# Altium integrated library Stm8_PCB_Project.IntLib: 14 symbols
Pins are listed as number, name and electrical type; pins without a type are passive.

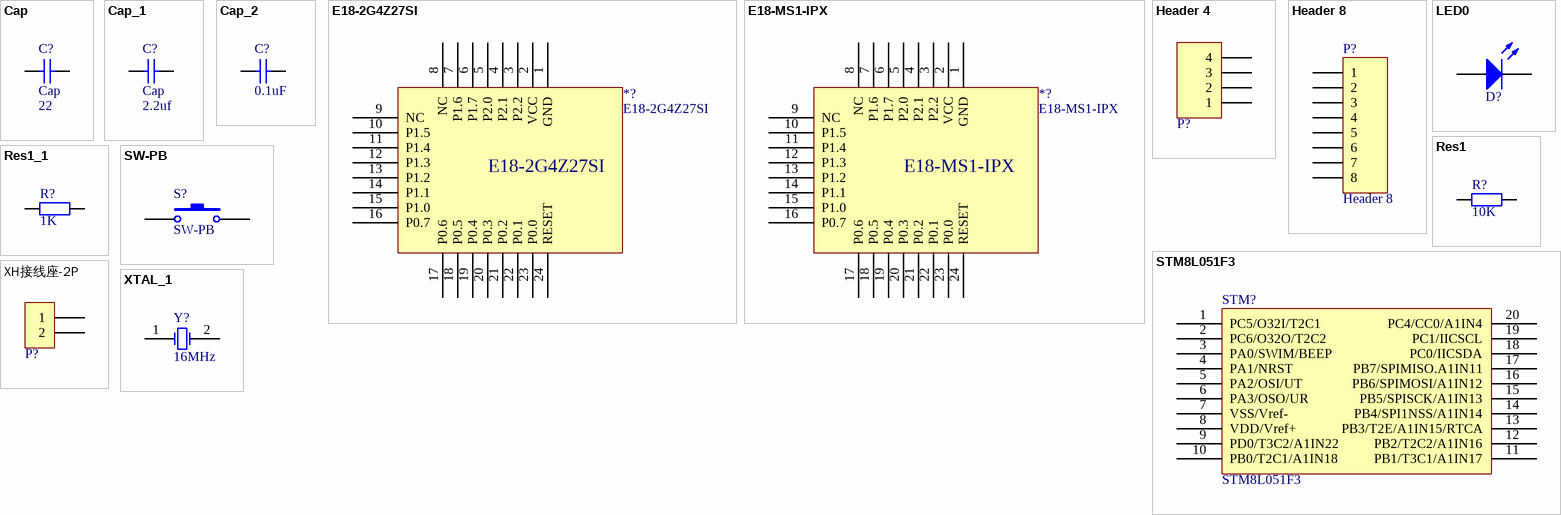
[diagram p0: symbols Cap to XTAL_1]

## Cap
designator C?  value 22
Capacitor; Published: 8-Jun-2000; LatestRevisionDate: 17-Jul-2002; LatestRevisionNote: Re-released for DXP Platform.; PackageReference: RAD-0.3; Publisher: Altium Limited; PackageDescription: Radial Cap, Thru-Hole; 2 Leads; 0.3 in Pin Spacing
simulation model CAP (Capacitor)
signal-integrity model Cap
footprint 0603-C
pins: 1, 2

## Cap_1
designator C?, comment Cap  value 2.2uf
Capacitor; Published: 8-Jun-2000; LatestRevisionDate: 17-Jul-2002; LatestRevisionNote: Re-released for DXP Platform.; PackageReference: RAD-0.3; Publisher: Altium Limited; PackageDescription: Radial Cap, Thru-Hole; 2 Leads; 0.3 in Pin Spacing
simulation model CAP (Capacitor)
signal-integrity model Cap
footprint 0603-C
pins: 1, 2

## Cap_2
designator C?  value 0.1uF
Capacitor; Published: 8-Jun-2000; LatestRevisionDate: 17-Jul-2002; LatestRevisionNote: Re-released for DXP Platform.; PackageReference: RAD-0.3; Publisher: Altium Limited; PackageDescription: Radial Cap, Thru-Hole; 2 Leads; 0.3 in Pin Spacing
simulation model CAP (Capacitor)
signal-integrity model Cap
footprint 0603-C
pins: 1, 2

## E18-2G4Z27SI
designator *?
footprint PE18-MS1PA1-IPX (22.5mm*16mm*2.40mm-S)
pins: 1 GND, 2 VCC, 3 P2.2, 4 P2.1, 5 P2.0, 6 P1.7, 7 P1.6, 8 NC, 9 NC, 10 P1.5, 11 P1.4, 12 P1.3, 13 P1.2, 14 P1.1, 15 P1.0, 16 P0.7, 17 P0.6, 18 P0.5, 19 P0.4, 20 P0.3, 21 P0.2, 22 P0.1, 23 P0.0, 24 RESET

## E18-MS1-IPX
designator *?
footprint PE18-MS1-IPX (20.8mm*14.1mm*2.40mm-S)
pins: 1 GND, 2 VCC, 3 P2.2, 4 P2.1, 5 P2.0, 6 P1.7, 7 P1.6, 8 NC, 9 NC, 10 P1.5, 11 P1.4, 12 P1.3, 13 P1.2, 14 P1.1, 15 P1.0, 16 P0.7, 17 P0.6, 18 P0.5, 19 P0.4, 20 P0.3, 21 P0.2, 22 P0.1, 23 P0.0, 24 RESET

## Header 4
designator P?  (value not drawn)
接插件; LatestRevisionDate: 17-Jul-2002; LatestRevisionNote: Re-released for DXP Platform.; Publisher: Altium Limited
footprint Header1X4
pins: 1, 2, 3, 4

## Header 8
designator P?
Header, 8-Pin; LatestRevisionDate: 17-Jul-2002; LatestRevisionNote: Re-released for DXP Platform.; Publisher: Altium Limited
footprint HDR1X8 (Connector; Header; 8 Position)
signal-integrity model Connector
pins: 1, 2, 3, 4, 5, 6, 7, 8

## LED0
designator D?  (value not drawn)
发光二极管; Published: 8-Jun-2000; LatestRevisionDate: 08-Jul-2005; LatestRevisionNote: Mech Layer 1 removed.; PackageReference: LED-0; Publisher: Altium Limited
footprint LED-BLUE-0805
pins: 1 A, 2 K

## Res1
designator R?  value 10K  (hidden comment: Res1)
贴片电阻; Published: 8-Jun-2000; LatestRevisionDate: 17-Jul-2002; LatestRevisionNote: Re-released for DXP Platform.; PackageReference: AXIAL-0.4; Publisher: Altium Limited
footprint 0603-R
pins: 1, 2

## Res1_1
designator R?, comment value 1K  (hidden comment: Res1)
贴片电阻; Published: 8-Jun-2000; LatestRevisionDate: 17-Jul-2002; LatestRevisionNote: Re-released for DXP Platform.; PackageReference: AXIAL-0.4; Publisher: Altium Limited
footprint 0603-R
pins: 1, 2

## STM8L051F3
designator STM?
footprint STM8L051F3
pins: 1 PC5/O32I/T2C1, 2 PC6/O32O/T2C2, 3 PA0/SWIM/BEEP, 4 PA1/NRST, 5 PA2/OSI/UT, 6 PA3/OSO/UR, 7 VSS/Vref-, 8 VDD/Vref+, 9 PD0/T3C2/A1IN22, 10 PB0/T2C1/A1IN18, 11 PB1/T3C1/A1IN17, 12 PB2/T2C2/A1IN16, 13 PB3/T2E/A1IN15/RTCA, 14 PB4/SPI1NSS/A1IN14, 15 PB5/SPISCK/A1IN13, 16 PB6/SPIMOSI/A1IN12, 17 PB7/SPIMISO.A1IN11, 18 PC0/IICSDA, 19 PC1/IICSCL, 20 PC4/CC0/A1IN4

## SW-PB
designator S?
微动开关; Published: 24-Mar-1999; LatestRevisionDate: 17-Jul-2002; LatestRevisionNote: Re-released for DXP Platform.; PackageReference: SPST-2; Publisher: Altium Limited
footprint 按键(贴片)
pins: 1, 2

## XH接线座-2P
designator P?  (value not drawn)
footprint XH-2P
pins: 1, 2

## XTAL_1
designator Y?, comment 16MHz
Crystal Oscillator; Published: 8-Jun-2000; LatestRevisionDate: 17-Jul-2002; LatestRevisionNote: Re-released for DXP Platform.; Publisher: Altium Limited
simulation model XTAL (Spice Subcircuit)
footprint 晶振(HC49S型)
pins: 1 OSC1, 2 OSC2